# EAGLE library part DISP_LCD_BTL221722-276L (library microbuilder)
BTL221722-276L - 2.2" 176x220 LCD Display - SPI Interface Dimensions: W: 40.3mm, L: 55mm, H: 2.35mm Logic: 1.8-3.3V VDD: 2.8-3.3V LEDs: 3*20mA LED Vf: ~3.3V
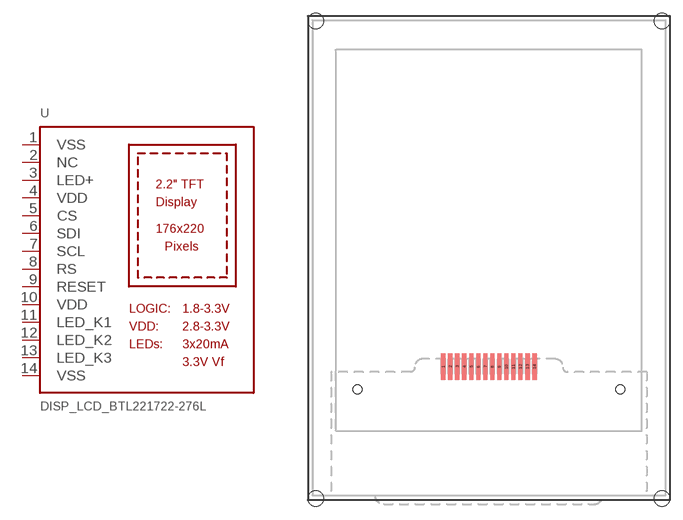
[diagram p159: symbol with the pads of BTL221722-276L; footprint BTL221722-276L]

Designator prefix U

## DISP_LCD_BTL221722-276L  [BTL221722-276L]
1  VSS  pwr
2  NC  nc
3  LED+  pwr
4  VDD  pwr
5  CS
6  SDI
7  SCL
8  RS
9  RESET
10  VDD  pwr
11  LED_K1  pwr
12  LED_K2  pwr
13  LED_K3  pwr
14  VSS  pwr

## Footprint BTL221722-276L (pad centres in mm)
smd 0.5 x 3: 1 -5.2,-16.44; 2 -4.4,-16.44; 3 -3.6,-16.44; 4 -2.8,-16.44; 5 -2,-16.44; 6 -1.2,-16.44; 7 -0.4,-16.44; 8 0.4,-16.44; 9 1.2,-16.44; 10 2,-16.44; 11 2.8,-16.44; 12 3.6,-16.44; 13 4.4,-16.44; 14 5.2,-16.44
hole 1 at -15,-19.06
hole 1 at 15,-19.06
hole 1.8 at -19.75,-31.5
hole 1.8 at 19.75,-31.5
hole 1.8 at 19.75,23
hole 1.8 at -19.75,23